# Altium footprint library PCB - CONNECTOR - AMPHENOL - AMPHENOL 10018783-11200TLF.PcbLib: 1 footprints
Each footprint in its own frame and in the unit in brackets; x right, y up, seen from the top. Pads: shape width x height; smd on the part's side, far side on the other; paste and mask are expansions set on the pad; w line width, h text height; cw(c..) or ccw(c..) is an arc to the next point about the centre after c.
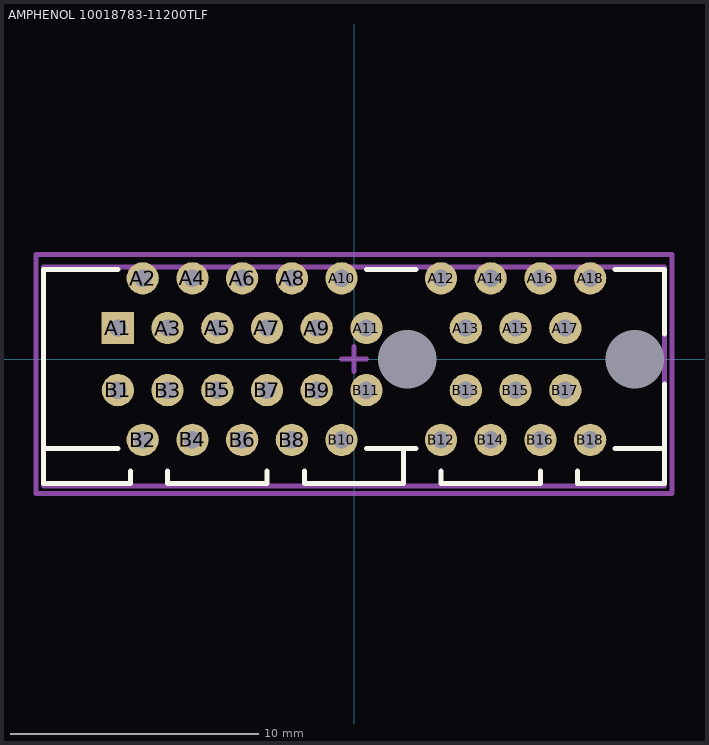
[diagram p0: the footprint, top view; thin cyan lines are the x and y axes]

## AMPHENOL 10018783-11200TLF [mm] "PCI EXPRESS GEN3 SINGLE PLASTIC PEG"
height 11.25
pads (38):
  rect 1.3x1.3 hole 0.7: A1(-9.5,1.25)
  round 1.3 hole 0.7: A2(-8.5,3.25) A3(-7.5,1.25) A4(-6.5,3.25) A5(-5.5,1.25) A6(-4.5,3.25) A7(-3.5,1.25) A8(-2.5,3.25) A9(-1.5,1.25) A10(-0.5,3.25) A11(0.5,1.25) A12(3.5,3.25) A13(4.5,1.25) A14(5.5,3.25) A15(6.5,1.25) A16(7.5,3.25) A17(8.5,1.25) A18(9.5,3.25) B1(-9.5,-1.25) B2(-8.5,-3.25) B3(-7.5,-1.25) B4(-6.5,-3.25) B5(-5.5,-1.25) B6(-4.5,-3.25) B7(-3.5,-1.25) B8(-2.5,-3.25) B9(-1.5,-1.25) B10(-0.5,-3.25) B11(0.5,-1.25) B12(3.5,-3.25) B13(4.5,-1.25) B14(5.5,-3.25) B15(6.5,-1.25) B16(7.5,-3.25) B17(8.5,-1.25) B18(9.5,-3.25)
  rect 0x0 hole 2.35 unplated paste-2539.97 mask+0: M(2.15,0) M(11.3,0)
Top Overlay:
  lines w0.2: -9.5,-3.6 -12.5,-3.6 ; -9.5,3.6 -12.5,3.6 -12.5,-3.6 ; -9,-4.5 -9,-5 -12.5,-5 -12.5,-3.6 ; -7.5,-4.5 -7.5,-5 -3.5,-5 -3.5,-4.5 ; -2,-4.5 -2,-5 2,-5 2,-3.6 ; 0.5,-3.6 2.5,-3.6 ; 0.5,3.6 2.5,3.6 ; 3.5,-4.5 3.5,-5 7.5,-5 7.5,-4.5 ; 9,-4.5 9,-5 12.5,-5 12.5,-3.6 ; 10.5,-3.6 12.5,-3.6 ; 10.5,3.6 12.5,3.6 12.5,1 ; 12.5,-1 12.5,-3.6
Top Assembly:
  lines w0.2: -0.5,0 0.5,0 ; 0,-0.5 0,0.5 ; -12.5,-5.1 12.5,-5.1 12.5,3.7 -12.5,3.7 -12.5,-5.1
Top Courtyard (Mech15):
  lines w0.2: -12.8,-5.4 12.8,-5.4 12.8,4.2 -12.8,4.2 -12.8,-5.4
3D body "Amphenol - 10018783-11200TLF.step": height 11, standoff -4.4, extent -12.5,-5.15 12.5,3.65